# Altium footprint library PcbLib1.PcbLib: 47 footprints (part 3 of 3)
Each footprint in its own frame and in the unit in brackets; x right, y up, seen from the top. Pads: shape width x height; smd on the part's side, far side on the other; paste and mask are expansions set on the pad; w line width, h text height; cw(c..) or ccw(c..) is an arc to the next point about the centre after c.
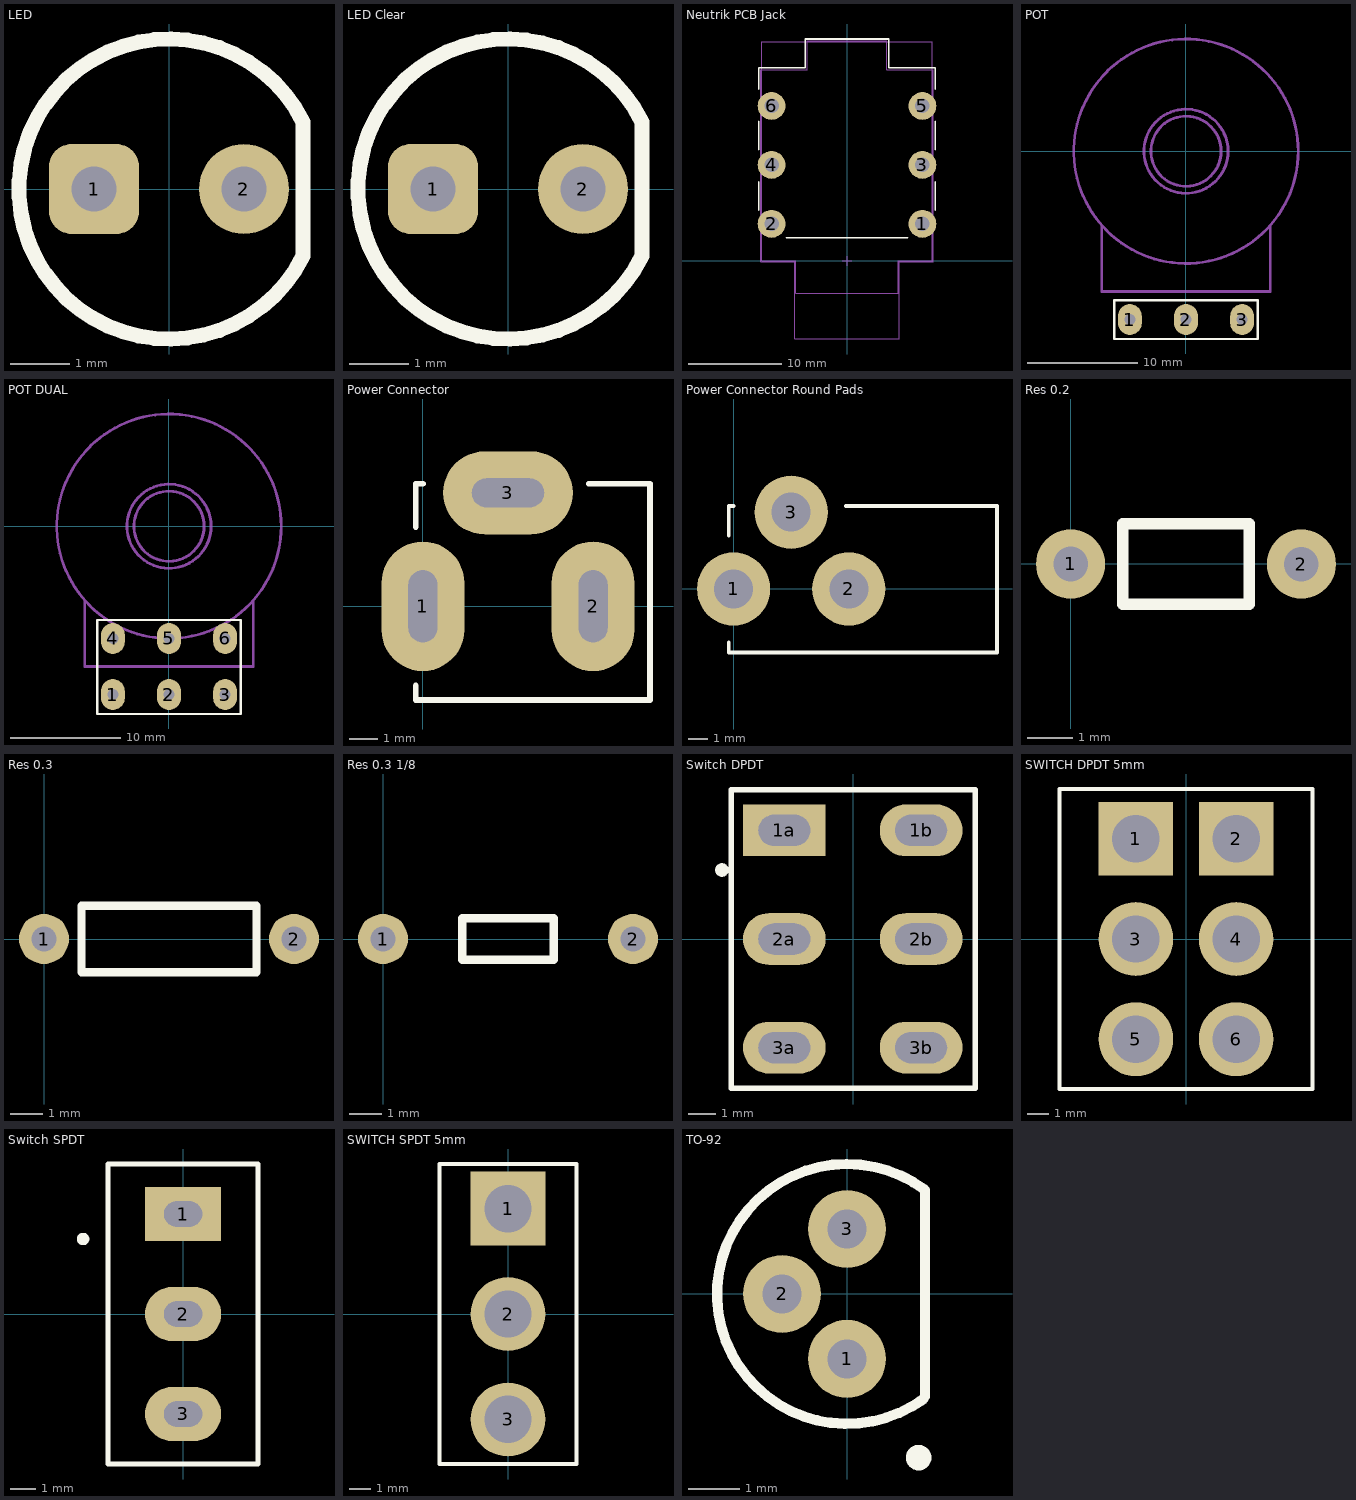
[diagram p2: the footprints below, top view; thin cyan lines are the x and y axes]

## LED [mil]
height 1200
pads (2):
  rrect50% 60x60 hole 30: 1(-50,0)
  round 60 hole 30: 2(50,0)
Top Overlay:
  lines w10: 89.44,-44.72 cw(c0,0) 89.44,44.72 89.44,-44.72
3D body: height 900, standoff 880, extent 40,-10 60,10
3D body: height 900, standoff 880, extent -60,-10 -40,10
3D body: height 1100, standoff 1040, extent -36.25,-7.49 56.25,7.5
3D body: height 1100, standoff -20, extent -57.5,-7.49 -42.5,7.5
3D body: height 1100, standoff -20, extent 42.5,-7.49 57.5,7.5
3D body: height 1020, standoff 1000, extent -69.76,-70 70.24,70
3D body: height 1158, standoff 1018, extent -59.52,-59.88 60,59.88

## LED Clear [mil]
pads (2):
  rrect50% 60x60 hole 30: 1(-50,0)
  round 60 hole 30: 2(50,0)
Top Overlay:
  lines w10: 89.44,-44.72 cw(c0,0) 89.44,44.72 89.44,-44.72
3D body: height 457, standoff 259, extent -98.55,-98.88 99,98.89
3D body: height 358, standoff 218, extent -99.37,-99.24 99.37,99.24
3D body: height 220, standoff 200, extent -109.13,-109.25 109.61,109.24
3D body: height 300, standoff -20, extent 42.5,-7.49 57.5,7.5
3D body: height 300, standoff -20, extent -57.5,-7.49 -42.5,7.5
3D body: height 300, standoff 240, extent -36.25,-7.49 56.25,7.5
3D body: height 100, standoff 80, extent -60,-10 -40,10
3D body: height 100, standoff 80, extent 40,-10 60,10

## Neutrik PCB Jack [mm]
pads (6):
  round 3 hole 1.55: 1(8.12,4) 2(-8.12,4) 3(8.12,10.35) 4(-8.12,10.35) 5(8.12,16.7) 6(-8.12,16.7)
Top Overlay:
  lines w0.2: -9.5,5.5 -9.5,8.5 ; -9.5,12 -9.5,15 ; -9.5,18.5 -9.5,20.8 -4.5,20.8 -4.5,23.9 4.5,23.9 4.5,20.8 9.5,20.8 9.5,18.5 ; -6.5,2.5 6.5,2.5 ; 9.5,5.5 9.5,8.5 ; 9.5,12 9.5,15
Mechanical 13:
  lines w0.1: -0.5,0 0.5,0 ; 0,-0.5 0,0.5 ; 9.3,20.6 9.3,-0.1 5.6,-0.1 5.6,-8.4 -5.6,-8.4 -5.6,-0.1 -9.3,-0.1 -9.3,20.6 -4.3,20.6 -4.3,23.7 4.3,23.7 4.3,20.6 9.3,20.6 ; 9.3,20.6 9.3,20.6
Mechanical 15:
  lines w0.1: -9.2,0 -9.2,23.6 9.2,23.6 9.2,0 5.5,0 5.5,-3.5 -5.5,-3.5 -5.5,0 -9.2,0
  text ".Designator" at -2.2,3.6 h0.8
3D body "User Library-Audio Jack Neutrik Amphenol 6_35.STEP": height 15.96, standoff -3.98, extent -9.1,-8.294 9.1,23.5

## POT [mil]
height 900
pads (3):
  oval 85x110 hole 40: 1(-200,-600) 2(0,-600) 3(200,-600)
Top Overlay:
  lines w8: -255.91,-669.29 -255.91,-531.5 255.91,-531.5 255.91,-669.29 -255.91,-669.29
Bottom Overlay:
  lines w8: -255.91,-669.29 255.91,-669.29 255.91,-531.5 -255.91,-531.5 -255.91,-669.29
Mechanical 1:
  circle w10: c0,0 r150
  circle w10: c0,0 r125
  lines w10: 124.99,0 ccw(c0,0) 124.99,0.01 ; 400,0 ccw(c0,0) 400,0
Mechanical 15:
  circle w10: c0,0 r400
  lines w10: -300,-265 -300,-500 300,-500 300,-265
3D body: height 400, standoff 100, extent -400,-399.87 400,399.88
3D body: height 340, standoff 320, extent -300,-407.5 300,-250
3D body: height 320, standoff 300, extent 120,-607.49 280,-162.49
3D body: height 0, standoff -100, extent 182.5,-607.49 217.5,-592.49
3D body: height 300, standoff 0, extent 120,-607.49 280,-592.49
3D body: height 320, standoff 300, extent -80,-607.49 80,-162.49
3D body: height 0, standoff -100, extent -17.5,-607.49 17.5,-592.49
3D body: height 300, standoff 0, extent -80,-607.49 80,-592.49
3D body: height 300, standoff 0, extent -280,-607.5 -120,-592.5
3D body: height 0, standoff -100, extent -217.5,-607.5 -182.5,-592.5
3D body: height 320, standoff 300, extent -280,-607.5 -120,-162.5
3D body: height 400, standoff 100, extent -180,-595 -180,-595
3D body: height 700, standoff 400, extent -150,-149.99 150,150.01
3D body: height 900, standoff 600, extent -125,-124.87 125,124.88
3D body: height 393.7, standoff 0, extent 0,0 0,0
3D body: height 393.7, standoff 0, extent 0,0 0,0
3D body: height 1200, standoff 800, extent -300,-299.99 300,300.01
3D body: height 1202, standoff 1200, extent -280,-279.99 280,280.01

## POT DUAL [mil]
height 900
pads (6):
  oval 85x110 hole 40: 1(-200,-600) 2(0,-600) 3(200,-600) 4(-200,-400) 5(0,-400) 6(200,-400)
Top Overlay:
  lines w8: -255.91,-669.29 255.9,-669.29 255.9,-334.65 -255.91,-334.65 -255.91,-669.29
Bottom Overlay:
  lines w8: -255.91,-669.29 255.91,-669.29 255.91,-334.65 -255.91,-334.65 -255.91,-669.29
Mechanical 1:
  circle w10: c0,0 r150
  circle w10: c0,0 r125
  lines w10: 124.99,0 ccw(c0,0) 124.99,0.01 ; 400,0 ccw(c0,0) 400,0
Mechanical 15:
  circle w10: c0,0 r400
  lines w10: -300,-265 -300,-500 300,-500 300,-265
3D body: height 340, standoff 320, extent -300,-407.5 300,-250
3D body: height 120, standoff 100, extent -300,-407.5 300,-250
3D body: height 100, standoff -100, extent -217.5,-407.5 -182.5,-392.5
3D body: height 100, standoff -100, extent -17.5,-407.49 17.5,-392.49
3D body: height 100, standoff -100, extent 182.5,-407.49 217.5,-392.49
3D body: height 320, standoff 300, extent 120,-607.49 280,-162.49
3D body: height 0, standoff -100, extent 182.5,-607.49 217.5,-592.49
3D body: height 300, standoff 0, extent 120.01,-607.49 280.01,-592.49
3D body: height 320, standoff 300, extent -80,-607.49 80,-162.49
3D body: height 0, standoff -100, extent -17.5,-607.49 17.5,-592.49
3D body: height 300, standoff 0, extent -79.99,-607.49 80.01,-592.49
3D body: height 300, standoff 0, extent -279.99,-607.5 -119.99,-592.5
3D body: height 0, standoff -100, extent -217.5,-607.5 -182.5,-592.5
3D body: height 320, standoff 300, extent -280,-607.5 -119.99,-162.5
3D body: height 400, standoff 100, extent -180,-595 -180,-595
3D body: height 700, standoff 400, extent -149.99,-149.99 150.01,150.01
3D body: height 400, standoff 100, extent -399.99,-399.87 400.01,399.88
3D body: height 900, standoff 600, extent -124.99,-124.87 125,124.88
3D body: height 393.7, standoff 0, extent 0,0 0,0
3D body: height 393.7, standoff 0, extent 0,0 0,0
3D body: height 1200, standoff 800, extent -299.99,-299.99 300.01,300.01
3D body: height 1202, standoff 1200, extent -279.99,-279.99 280.01,280.01

## Power Connector [mil]
height 400
pads (3):
  oval 115x180 hole 100 slot 40 at 0 deg: 1(0,0) 2(236.22,0)
  oval 180x115 hole 100 slot 40 at 90 deg: 3(118.11,157.48)
Top Overlay:
  lines w8: -10,-110 -10,-130 314.96,-130 314.96,170 230,170 ; -10,110 -10,170 0,170
3D body: height 236.22, standoff 0, extent -9.84,-127.95 541.34,167.32
3D body: height 393.7, standoff 0, extent 442.91,-127.95 541.34,167.32
3D body: height 393.7, standoff 0, extent 541.34,-196.85 541.34,-196.85
3D body: height 383.86, standoff 88.58, extent -9.84,-127.96 442.92,167.32

## Power Connector Round Pads [mil]
height 400
pads (3):
  round 150 hole 80: 1(0,0) 2(236.22,0) 3(118.11,157.48)
Top Overlay:
  lines w8: -10,-110 -10,-130 540,-130 540,170 230,170 ; -10,110 -10,170 0,170
3D body: height 236.22, standoff 0, extent -9.84,-127.95 541.34,167.32
3D body: height 393.7, standoff 0, extent 442.91,-127.95 541.34,167.32
3D body: height 393.7, standoff 0, extent 541.34,-196.85 541.34,-196.85
3D body: height 383.86, standoff 88.58, extent -9.84,-127.96 442.92,167.32

## Res 0.2 [mil]
pads (2):
  round 60 hole 30: 1(0,0) 2(200,-0.06)
Top Overlay:
  lines w10: 45,35 45,35 ; 45,35 45,-35 155,-35 155,35 45,35
3D body: height 40, standoff 20, extent 190.01,-9.98 210.01,9.88
3D body: height 40, standoff 20, extent -9.95,-9.98 10.05,9.88
3D body: height 30, standoff -30, extent 190.09,-10.14 210.01,9.82
3D body: height 30, standoff -30, extent -9.91,-10.08 10.01,9.88
3D body: height 54.95, standoff 5.05, extent 45,-24.8 155,25
3D body: height 39.98, standoff 20.02, extent 0,-10.02 200,9.9

## Res 0.3 [mil]
pads (2):
  round 60 hole 30: 1(0,0) 2(300,0)
Top Overlay:
  lines w10: 45,-40 255,-40 255,40 45,40 45,0 45,-40
3D body: height 45, standoff 25, extent 290.01,-9.98 310.01,9.88
3D body: height 45, standoff 25, extent -9.95,-9.98 10.05,9.88
3D body: height 35, standoff -30, extent 290.09,-10.14 310.01,9.82
3D body: height 35, standoff -30, extent -9.91,-10.08 10.01,9.88
3D body: height 64.94, standoff 5.06, extent 50,-30 250,29.76
3D body: height 44.98, standoff 25.02, extent 0,-10.02 300,9.9

## Res 0.3 1/8 [mil]
pads (2):
  round 60 hole 30: 1(0,0) 2(300,0)
Top Overlay:
  lines w10: 95,-25 205,-25 205,25 95,25 95,0 95,-25
3D body: height 54.95, standoff 5.05, extent 95,-24.74 205,25.06
3D body: height 39.98, standoff 20.02, extent 0,-10.02 300,9.9
3D body: height 30, standoff -30, extent -9.91,-10.08 10.01,9.88
3D body: height 30, standoff -30, extent 290.09,-10.14 310.01,9.82
3D body: height 40, standoff 20, extent -9.95,-9.98 10.05,9.88
3D body: height 40, standoff 20, extent 290.01,-9.98 310.01,9.88

## Switch DPDT [mil]
pads (6):
  rect 120x75 hole 45 slot 75 at 0 deg: 1a(-100,157.48)
  oval 120x75 hole 45 slot 75 at 0 deg: 1b(98.43,157.48) 2a(-100,0) 2b(98.43,0) 3a(-100,-157.48) 3b(98.43,-157.48)
Top Overlay:
  circle w9.84: c-190.39,100.04 r4.92
  lines w7.87: -177.17,-216.54 177.17,-216.54 177.17,216.54 -177.17,216.54 -177.17,-216.54
Bottom Overlay:
  lines w8: -177.17,-216.54 177.17,-216.54 177.17,216.54 -177.17,216.54 -177.17,-216.54

## SWITCH DPDT 5mm [mm]
pads (6):
  rect 3.54x3.5 hole 2.25: 1(-2.375,4.75) 2(2.375,4.75)
  oval 3.54x3.5 hole 2.25: 3(-2.375,0) 4(2.375,0) 5(-2.375,-4.75) 6(2.375,-4.75)
Top Overlay:
  lines w0.203: -6,-7.112 6,-7.112 6,7.112 -6,7.112 -6,-7.112
3D body: height 1.1, standoff 1, extent -5.5,-4 5.5,4
3D body: height 9, standoff 1, extent -5.5,4 5.5,6.5
3D body: height 9, standoff 1.1, extent -5.5,-4 5.5,4
3D body: height 2, standoff -3, extent -3.375,-5.275 -1.375,-4.275
3D body: height 2, standoff -3, extent -3.375,-0.5 -1.375,0.5
3D body: height 9, standoff 1, extent -5.5,-6.5 5.5,-4
3D body: height 9, standoff 1, extent -2.5,0 -2.5,0
3D body: height 28, standoff 2, extent -0.992,-0.998 1,0.998
3D body: height 18, standoff 2, extent -2.5,-2.497 2.5,2.497
3D body: height 2, standoff -3, extent -3.375,4.25 -1.375,5.25
3D body: height 2, standoff -3, extent 1.4,4.25 3.4,5.25
3D body: height 2, standoff -3, extent 1.4,-0.5 3.4,0.5
3D body: height 2, standoff -3, extent 1.4,-5.275 3.4,-4.275

## Switch SPDT [mil]
height 600
pads (3):
  rect 120x85 hole 40 slot 60 at 0 deg: 1(0,157.48)
  oval 120x85 hole 40 slot 60 at 0 deg: 2(0,0) 3(0,-157.48)
Top Overlay:
  circle w9.84: c-157.48,118.11 r4.92
  lines w7.87: -118.11,-236.22 118.11,-236.22 118.11,236.22 -118.11,236.22 -118.11,-236.22
Bottom Overlay:
  lines w8: -118.11,-236.22 118.11,-236.22 118.11,236.22 -118.11,236.22 -118.11,-236.22

## SWITCH SPDT 5mm [mm]
pads (3):
  rect 3.54x3.5 hole 2.25: 1(0,5)
  oval 3.54x3.5 hole 2.25: 2(0,0) 3(0,-5)
Top Overlay:
  lines w0.203: -3.25,-7.112 3.25,-7.112 3.25,7.112 -3.25,7.112 -3.25,-7.112
3D body: height 1.1, standoff 1, extent -3,-4 3,4
3D body: height 9, standoff 1, extent -3,4 3,6
3D body: height 9, standoff 1.1, extent -3,-4 3,4
3D body: height 2, standoff -3, extent -1,-5.5 1,-4.5
3D body: height 2, standoff -3, extent -1,-0.5 1,0.5
3D body: height 2, standoff -3, extent -1,4.5 1,5.5
3D body: height 9, standoff 1, extent -3,-6 3,-4
3D body: height 9, standoff 1, extent -2.5,0 -2.5,0
3D body: height 28, standoff 2, extent -0.992,-0.998 1,0.998
3D body: height 18, standoff 2, extent -2.5,-2.497 2.5,2.497

## TO-92 [mil]
pads (3):
  round 60 hole 30: 1(0,-50) 2(-50,0) 3(0,50)
Top Overlay:
  circle w9.84: c55.12,-125.98 r4.92
  lines w7.87: 58.82,-80.87 cw(c0,0) 59.95,80.04 ; 60,-78.74 60,78.74
3D body: height 270.08, standoff 86.61, extent -100.38,-100.45 60.04,100.45